# Altium integrated library 10KOhm.IntLib: 1 symbol
Pins are listed as number, name and electrical type; pins without a type are passive.

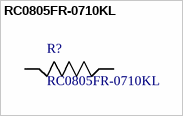
[diagram p0: symbol RC0805FR-0710KL]

## RC0805FR-0710KL
designator R?
RES SMD 10K OHM 1% 1/8W 0805; MF: Yageo; Availability: Good; Package: 0805 Yageo; Price: 0.01 USD; MP: RC0805FR-0710KL; Value: *
footprint RESC2012X60
pins: 1, 2